# Altium footprint library SOT-23-3L.PcbLib: 1 footprints
Each footprint in its own frame and in the unit in brackets; x right, y up, seen from the top. Pads: shape width x height; smd on the part's side, far side on the other; paste and mask are expansions set on the pad; w line width, h text height; cw(c..) or ccw(c..) is an arc to the next point about the centre after c.
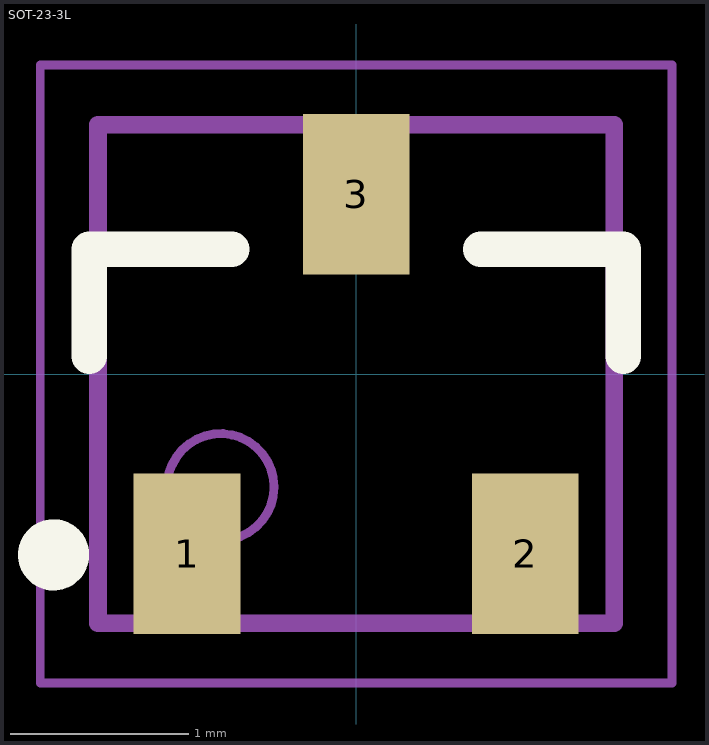
[diagram p0: the footprint, top view; thin cyan lines are the x and y axes]

## SOT-23-3L [mm] "SOT23, 3-Leads, Body 2.550x3.0mm, Pitch 1.9mm, IPC High Density"
height 1.15
pads (3):
  rect 0.6x0.9 smd: 1(-0.95,-1.01) 2(0.95,-1.01) 3(0,1.01)
Top Overlay:
  circle w0.2: c-1.7,-1.016 r0.1
  lines w0.2: -1.5,0.1 -1.5,0.7 -0.7,0.7 ; 0.7,0.7 1.5,0.7 1.5,0.1
Mechanical 13:
  circle w0.05: c-0.762,-0.635 r0.3
  lines w0.1: -1.45,-1.4 -1.45,1.4 1.45,1.4 1.45,-1.4 -1.45,-1.4
Mechanical 15:
  lines w0.05: -1.775,-1.735 1.775,-1.735 1.775,1.735 -1.775,1.735 -1.775,-1.735
3D body: height 1.2, standoff 0, extent -1.45,-1.4 1.45,1.4